# EAGLE library part 74LVC1G99 (library nxp_60_1_1)
Ultra-configurable multiple function gate; 3-state The 74LVC1G99 provides a low voltage, ultra-configurable, multiple function gate with 3-state output. The device can be configured as one of several logic functions including, AND, OR, NAND, NOR, XOR, XNOR, inverter, buffer and MUX. No external components are required to configure the device as all inputs can be connected directly to VCC or GND. The 3-state output is controlled by the output enable input (OE). A HIGH level at OE causes the output (Y) to assume a high-impedance OFF-state. When OE is LOW, the output state is determined by the signals applied to the Schmitt trigger inputs (A, B, C and D). Due to the use of Schmitt trigger inputs the device is tolerant of slowly changing input signals, transforming them into sharply defined, jitter free output signals. By eliminating leakage current paths to VCC and GND, the inputs and disabled output are also over-voltage tolerant, making the device suitable for mixed-voltage applications. This device is fully specified for partial power-down applications using IOFF. The IOFF circuitry disables the output, preventing the damaging backflow current through the device when it is powered down. The 74LVC1G99 is fully specified over the supply range from 1.65 V to 5.5 V. AAL Eindhoven MK
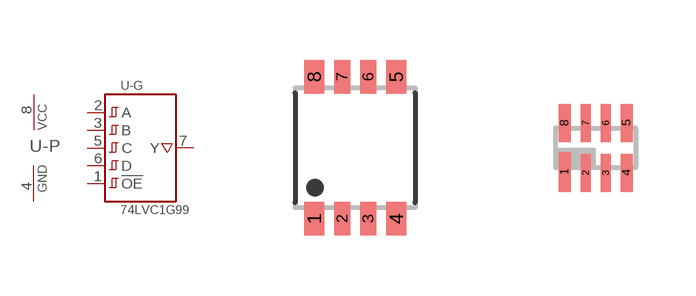
[diagram p98: symbol with the pads of SOT505-2; footprints SOT505-2, SOT833-1]

Designator prefix U; gates -G=74LVC1G99 -P=PWRN

## 74LVC1G99DP  [SOT505-2]
1  -G:!OE!  in
2  -G:A  in
3  -G:B  in
4  -P:GND  pwr
5  -G:C  in
6  -G:D  in
7  -G:Y  out
8  -P:VCC  pwr

## 74LVC1G99GT  [SOT833-1]
Pads as for SOT505-2

## 74LVC1G99GF  [SOT1089-1]
Pads as for SOT505-2

## 74LVC1G99GD  [SOT996-2/3]
Pads as for SOT505-2

## 74LVC1G99GM  [SOT902]
1  -G:Y  out
2  -G:D  in
3  -G:C  in
4  -P:GND  pwr
5  -G:B  in
6  -G:A  in
7  -G:!OE!  in
8  -P:VCC  pwr

## 74LVC1G99GS  [SOT1203]
Pads as for SOT505-2

## Footprint SOT505-2 (pad centres in mm)
SOT505-2 TSSOP8: plastic thin shrink small outline package; 8 leads; body width 3 mm JEDEC: -- IEC: --
smd 0.5 x 0.85: 1 -1.025,-1.775; 4 1.025,-1.775; 5 1.025,1.775; 8 -1.025,1.775
smd 0.4 x 0.85: 2 -0.325,-1.775; 3 0.325,-1.775; 6 0.325,1.775; 7 -0.325,1.775

## Footprint SOT833-1 (pad centres in mm)
SOT833-1 XSON8: plastic extremely thin small outline package; no leads; 8 terminals; body 1 x 1.95 x 0.5 mm JEDEC: MO-252 IEC: -- JEITA: --
smd 0.3 x 1: 1 -0.775,-0.6
smd 0.25 x 0.95: 2 -0.25,-0.625; 3 0.25,-0.625; 6 0.25,0.625; 7 -0.25,0.625
smd 0.3 x 0.95: 4 0.775,-0.625; 5 0.775,0.625; 8 -0.775,0.625

## Footprint SOT1089-1 (pad centres in mm)
SOT1089-1 XSON8: plastic, extremely thin small outline package; no leads; 8 terminals; body 1 x 1.35 x 0.5 mm JEDEC: -- IEC: -- JEITA: --
smd 0.15 x 0.5: 1 -0.525,-0.35; 2 -0.175,-0.35; 3 0.175,-0.35; 4 0.525,-0.35; 5 0.525,0.35; 6 0.175,0.35; 7 -0.175,0.35; 8 -0.525,0.35

## Footprint SOT996-2/3 (pad centres in mm)
SOT996-2/3 XSON8U: plastic extremely thin small outline package; no leads;8 terminals; UTLP based; body 3 x 2 x 0.5 mm JEDEC: IEC: -- JEITA: --
smd 0.25 x 1.1: 1 -0.75,-1.45
smd 0.25 x 1: 2 -0.25,-1.5; 3 0.25,-1.5; 4 0.75,-1.5; 5 0.75,1.5; 6 0.25,1.5; 7 -0.25,1.5; 8 -0.75,1.5

## Footprint SOT902 (pad centres in mm)
SOT902 XQFN8U: plastic extremely thin quad flat package; no leads; 8 terminals; UTLP based; body 1.6 x 1.6 x 0.5 mm JEDEC: -- IEC: ---
smd 0.4 x 0.32: 1 0.6,-0.55
smd 0.4 x 0.22: 2 0.6,0; 3 0.6,0.5; 5 -0.6,0.5; 6 -0.6,0; 7 -0.6,-0.5
smd 0.22 x 0.4: 4 0,0.6; 8 0,-0.6

## Footprint SOT1203 (pad centres in mm)
SOT1203 XSON8: extremely thin small outline package; no leads; 8 terminals; body 1.35 x 1.0 x 0.35 mm JEDEC: -- IEC: -- JEITA: --
smd 0.15 x 0.5: 1 -0.525,-0.35; 2 -0.175,-0.35; 3 0.175,-0.35; 4 0.525,-0.35; 5 0.525,0.35; 6 0.175,0.35; 7 -0.175,0.35; 8 -0.525,0.35